# Altium schematic symbol library L7912CV.SchLib: 1 symbol
Pins are listed as number, name and electrical type; pins without a type are passive.

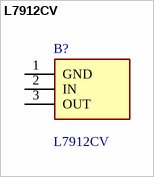
[diagram p0: symbol L7912CV]

## L7912CV
designator B?
L7912CV, Linear Voltage Regulator, Negative 1.5A -12 V, 3-Pin TO-220; Manufacturer_Name: STMicroelectronics; Geometry.Height: 4.6mm; Mouser Part Number: 511-L7912CV; Mouser Price/Stock: https://www.mouser.co.uk/ProductDetail/STMicroelectronics/L7912CV?qs=hprEbj%252BdINrTD2aXjPyteQ%3D%3D; Manufacturer_Part_Number: L7912CV; Datasheet Link: https://www.st.com/resource/en/datasheet/l79.pdf
footprint TO255P460X1020X2008-3P
pins: 1 GND, 2 IN, 3 OUT